# Altium schematic symbol library NUWCBallastBOMSymbols.SchLib: 31 symbols
Pins are listed as number, name and electrical type; pins without a type are passive.

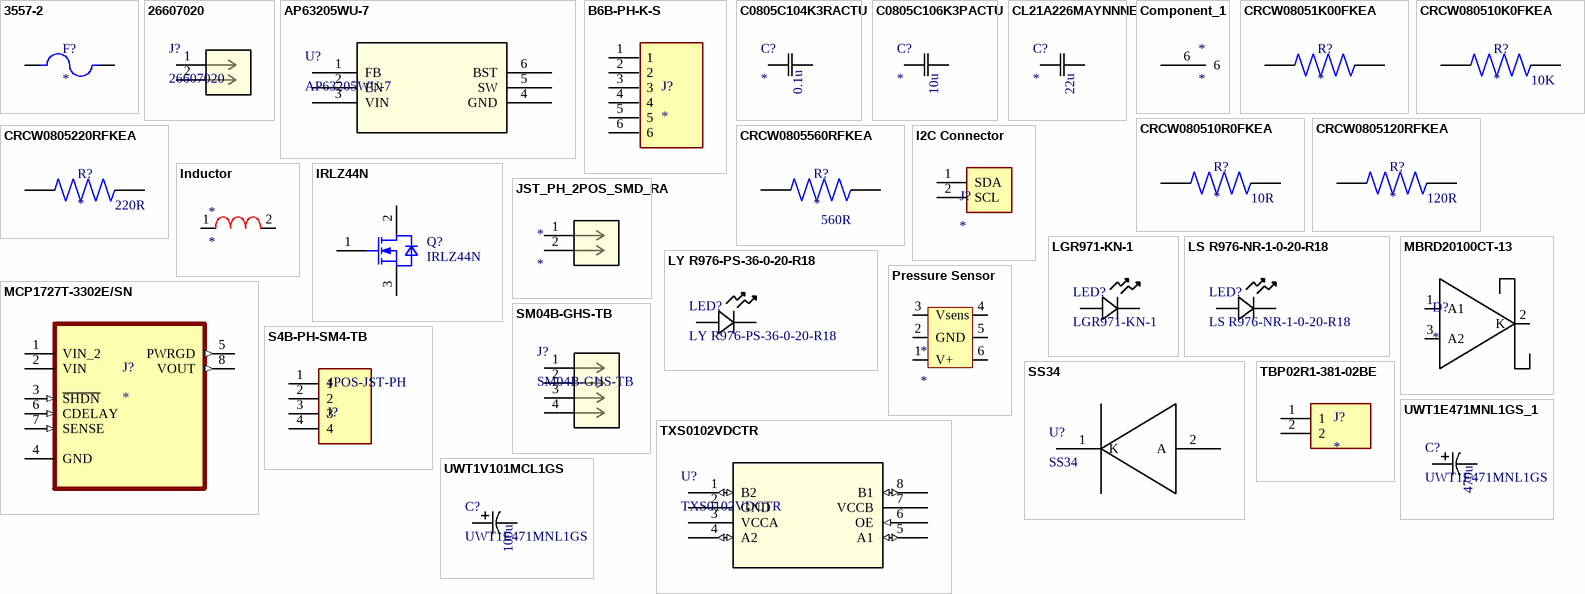
[diagram p0: symbols 3557-2 to UWT1V101MCL1GS]

## 3557-2
designator F?
THM 2 in 1 Auto Blade Holder; MF: Keystone Electronics; MP: 3557-2; Package: Nonstandard Keystone; Check_prices: https://www.snapeda.com/parts/3557-2/Keystone+Electronics/view-part/?ref=eda; Value: *; Purchase-URL: https://pricing.snapeda.com/search/part/3557-2/?ref=eda; Availability: In Stock; SnapEDA_Link: https://www.snapeda.com/parts/3557-2/Keystone+Electronics/view-part/?ref=snap; Price: None
footprint FUSE_3557-2
pins: 1_1 1, 1_2 1, 2_1 2, 2_2 2

## 26607020
designator J?
KK 396 Solid Right-Angle Header, Friction Lock, with Snap-in Plastic Peg  PCB Lock, 2 Circuits, Tin (Sn) Plating; Manufacturer_Name: Molex Connector Corporation; Copyright: Copyright (C) 2026 Ultra Librarian. All rights reserved.; Manufacturer_Part_Number: 26607020; Datasheet: https://www.molex.com/en-us/products/part-detail-pdf/26607020?display=pdf; RefDes: RefDes; Type: Type
footprint CONN_SD-42892-001_M450_02_MOL
pins: 1, 2

## AP63205WU-7
designator U?
Description; Manufacturer_Name: Diodes Inc; Copyright: Copyright (C) 2025 Ultra Librarian. All rights reserved.; Manufacturer_Part_Number: AP63205WU-7; RefDes: RefDes; Type: Type
footprint SOIC_05WU-7_DIO
pins: 1 FB, 2 EN, 3 VIN, 4 GND (power), 5 SW, 6 BST

## B6B-PH-K-S
designator J?
Connector Header Through Hole 6 position 0.079 (2.00mm); MF: JST Sales; MP: B6B-PH-K-S; SnapEDA_Link: https://www.snapeda.com/parts/B6B-PH-K-S/JST+Sales+America+Inc./view-part/?ref=snap; Package: None; Value: *; Check_prices: https://www.snapeda.com/parts/B6B-PH-K-S/JST+Sales+America+Inc./view-part/?ref=eda
footprint JST_B6B-PH-K-S
pins: 1, 2, 3, 4, 5, 6

## C0805C104K3RACTU
designator C?  value 0.1u
Capacitor;Ceramic;Cap;.0.1uF;Tol 10%;SMT;Vol-Rtg 25V;X7R;Tape and Reel | KEMET C0805C104K3RACTU; SnapEDA_Link: https://www.snapeda.com/parts/C0805C104K3RACTU/KEMET/view-part/?ref=snap; Package: 805-2 KEMET; MF: KEMET; MP: C0805C104K3RACTU; Check_prices: https://www.snapeda.com/parts/C0805C104K3RACTU/KEMET/view-part/?ref=eda
footprint CAP_0805_KEMET
pins: 1, 2

## C0805C106K3PACTU
designator C?  value 10u
Capacitor;Ceramic;Cap;.10uF;Tol 10%;SMT;Vol-Rtg 25V;X5R;Tape and Reel | KEMET C0805C106K3PACTU; SnapEDA_Link: https://www.snapeda.com/parts/C0805C104K3RACTU/KEMET/view-part/?ref=snap; Package: 805-2 KEMET; MF: KEMET; MP: C0805C106K3PACTU; Check_prices: https://www.snapeda.com/parts/C0805C104K3RACTU/KEMET/view-part/?ref=eda
footprint CAP_0805_KEMET
pins: 1, 2

## CL21A226MAYNNNE
designator C?  value 22u
Multilayer Ceramic Capacitors MLCC - SMD/SMT 22uF+/-20% 25V X5R 2012; MF: Samsung Electro-Mechanics; MP: CL21A226MAYNNNE; SnapEDA_Link: https://www.snapeda.com/parts/CL21A226MAYNNNE/Samsung/view-part/?ref=snap; Package: SMD-2 Samsung; Check_prices: https://www.snapeda.com/parts/CL21A226MAYNNNE/Samsung/view-part/?ref=eda
footprint CAP_0805_SAMSUNG
pins: 1, 2

## Component_1
designator *
pins: 6

## CRCW08051K00FKEA
designator R?
Resistor,Thick Film,1 Kilohms,0.125 W,1%,SMT,0805,TCR 37 ppm/DegC,Cut Tape | Vishay Dale CRCW08051K00FKEA; SnapEDA_Link: https://www.snapeda.com/parts/CRCW08051K00FKEA/Vishay+Dale/view-part/?ref=snap; Package: 2012 Vishay; Value: *; MF: Vishay; MP: CRCW08051K00FKEA; Check_prices: https://www.snapeda.com/parts/CRCW08051K00FKEA/Vishay+Dale/view-part/?ref=eda
footprint RESC2012X50N
pins: 1, 2

## CRCW080510K0FKEA
designator R?  value 10K
Resistor,Thick Film,10 Kilohms,0.125 W,1%,SMT,0805,TCR 37 ppm/DegC,Cut Tape | Vishay Dale CRCW080510K0FKEA; MP: CRCW08051K00FKEA; SnapEDA_Link: https://www.snapeda.com/parts/CRCW08051K00FKEA/Vishay+Dale/view-part/?ref=snap; Package: 2012 Vishay; MF: Vishay; Check_prices: https://www.snapeda.com/parts/CRCW08051K00FKEA/Vishay+Dale/view-part/?ref=eda
footprint RESC2012X50N
pins: 1, 2

## CRCW080510R0FKEA
designator R?  value 10R
Resistor,Thick Film, 10 Ohms,0.125 W,1%,SMT,0805,TCR 37 ppm/DegC,Cut Tape | Vishay Dale CRCW08051K00FKEA; SnapEDA_Link: https://www.snapeda.com/parts/CRCW08051K00FKEA/Vishay+Dale/view-part/?ref=snap; Package: 2012 Vishay; MF: Vishay; MP: CRCW08051K00FKEA; Check_prices: https://www.snapeda.com/parts/CRCW08051K00FKEA/Vishay+Dale/view-part/?ref=eda
footprint RESC2012X50N
pins: 1, 2

## CRCW0805120RFKEA
designator R?  value 120R
Resistor,Thick Film,120 Ohms,0.125 W,1%,SMT,0805,TCR 37 ppm/DegC,Cut Tape | Vishay Dale CRCW0805120RFKEA; MP: CRCW08051K00FKEA; SnapEDA_Link: https://www.snapeda.com/parts/CRCW08051K00FKEA/Vishay+Dale/view-part/?ref=snap; Package: 2012 Vishay; MF: Vishay; Check_prices: https://www.snapeda.com/parts/CRCW08051K00FKEA/Vishay+Dale/view-part/?ref=eda
footprint RESC2012X50N
pins: 1, 2

## CRCW0805220RFKEA
designator R?  value 220R
Resistor,Thick Film,220 Ohms,0.125 W,1%,SMT,0805,TCR 37 ppm/DegC,Cut Tape | Vishay Dale CRCW0805220RFKEA; MP: CRCW08051K00FKEA; SnapEDA_Link: https://www.snapeda.com/parts/CRCW08051K00FKEA/Vishay+Dale/view-part/?ref=snap; Package: 2012 Vishay; MF: Vishay; Check_prices: https://www.snapeda.com/parts/CRCW08051K00FKEA/Vishay+Dale/view-part/?ref=eda
footprint RESC2012X50N
pins: 1, 2

## CRCW0805560RFKEA
designator R?  value 560R
Resistor,Thick Film,560 Ohms,0.125 W,1%,SMT,0805,TCR 37 ppm/DegC,Cut Tape | Vishay Dale CRCW0805560RFKEA; MP: CRCW08051K00FKEA; SnapEDA_Link: https://www.snapeda.com/parts/CRCW08051K00FKEA/Vishay+Dale/view-part/?ref=snap; Package: 2012 Vishay; MF: Vishay; Check_prices: https://www.snapeda.com/parts/CRCW08051K00FKEA/Vishay+Dale/view-part/?ref=eda
footprint RESC2012X50N
pins: 1, 2

## I2C Connector
designator J?
Connector Header Through Hole 2 position 0.049 (1.25mm); MP: 530470210; MF: Molex; SnapEDA_Link: https://www.snapeda.com/parts/530470210/Molex/view-part/?ref=snap; Purchase-URL: https://pricing.snapeda.com/search/part/530470210/?ref=eda; Value: *; Digi-Key_Part_Number: WM1731-ND; Check_prices: https://www.snapeda.com/parts/530470210/Molex/view-part/?ref=eda; Package: None
footprint MOLEX_530470210
pins: 1 SDA, 2 SCL

## Inductor
designator *
footprint inductor
pins: 1, 2

## IRLZ44N
designator Q?
OptiMOS 3 Power-Transistor, VDS 100V; Manufacturer: Infineon Technologies; Manufacturer Order Number: IRLZ44N; PackageReference: PG-TO220-3-904
footprint IFX-PG-TO220-3-904-1 (TO,flange mount,2.54 mm pitch, 3 pin, 10.16 mm L X 4.57 mm W X 20.56 mm H body)
pins: 1 GATE, 2 DRAIN, 3 SOURCE

## JST_PH_2POS_SMD_RA
designator *
footprint JST_S2B-PH-SM4-TB
pins: 1, 2

## LGR971-KN-1
designator LED?
GREEN DIFF LED; Manufacturer_Name: ams OSRAM; Copyright: Copyright (C) 2025 Ultra Librarian. All rights reserved.; Manufacturer_Part_Number: LGR971-KN-1
footprint LED_LGR971-KN-1_OSR
pins: 1, 2

## LS R976-NR-1-0-20-R18
designator LED?
RED DIFF LED; Manufacturer_Name: ams OSRAM; Manufacturer_Part_Number: LGR971-KN-1; Copyright: Copyright (C) 2025 Ultra Librarian. All rights reserved.
footprint LED_LGR971-KN-1_OSR
pins: 1, 2

## LY R976-PS-36-0-20-R18
designator LED?
YEL DIFF LED; Manufacturer_Name: ams OSRAM; Manufacturer_Part_Number: LGR971-KN-1; Copyright: Copyright (C) 2025 Ultra Librarian. All rights reserved.
footprint LED_LGR971-KN-1_OSR
pins: 1, 2

## MBRD20100CT-13
designator D?
DIODE ARR SCHOT 100V 10A TO2523 / Diodes Incorporated
footprint MBRD20100CT_SHOT_DIODE (DIODE ARR SCHOT 100V 10A TO2523)
pins: 1 A1, 2 K, 3 A2

## MCP1727T-3302E/SN
designator J?
1.5A CMOS LDO, Vout=3.3V, Extended Temp Range | Microchip Technology Inc. MCP1727T-3302E/SN; SnapEDA_Link: https://www.snapeda.com/parts/MCP1727T-3302E/SN/Microchip+Technology/view-part/?ref=snap; Package: SO-8 Microchip; Value: *; MF: Microchip Technology; MP: MCP1727T-3302E/SN; Check_prices: https://www.snapeda.com/parts/MCP1727T-3302E/SN/Microchip+Technology/view-part/?ref=eda
footprint SOIC127P490X175-8N
pins: 1 VIN_2 (power), 2 VIN (power), 3 ~{SHDN} (in), 4 GND, 5 PWRGD (out), 6 CDELAY (in), 7 SENSE (in), 8 VOUT (out)

## Pressure Sensor
designator *
footprint PCBComponent_1
pins: 1 V+, 2 GND, 3 Vsens, 4, 5, 6

## S4B-PH-SM4-TB
designator 4POS-JST-PH, comment J?
Connector Header Surface Mount, Right Angle 4 position 0.079 (2.00mm); MF: JST Sales; MP: S4B-PH-SM4-TB; SnapEDA_Link: https://www.snapeda.com/parts/S4B-PH-SM4-TB/JST/view-part/?ref=snap; Package: None; Value: *; Check_prices: https://www.snapeda.com/parts/S4B-PH-SM4-TB/JST/view-part/?ref=eda
footprint JST_S4B-PH-SM4-TB
pins: 1, 2, 3, 4

## SM04B-GHS-TB
designator J?
Description; Manufacturer_Name: JST; Copyright: Copyright (C) 2025 Ultra Librarian. All rights reserved.; Manufacturer_Part_Number: SM04B-GHS-TB; RefDes: RefDes; Type: Type
footprint CONN_SM04B-GHS-TB_JST
pins: 1, 2, 3, 4

## SS34
designator U?
Description; Manufacturer_Name: onsemi; Copyright: Copyright (C) 2025 Ultra Librarian. All rights reserved.; Manufacturer_Part_Number: SS34; RefDes: RefDes; Type: Type
footprint SHOTT_DIODE
pins: 1 K, 2 A

## TBP02R1-381-02BE
designator J?
2~24 Poles, Pluggable,Receptacle, Horizontal, 3.81 Pitch, Terminal Block Connector; MF: Same Sky; MP: TBP02R1-381-02BE; SnapEDA_Link: https://www.snapeda.com/parts/TBP02R1-381-02BE/Same+Sky/view-part/?ref=snap; Package: None; Value: *; Check_prices: https://www.snapeda.com/parts/TBP02R1-381-02BE/Same+Sky/view-part/?ref=eda
footprint CUI_TBP02R1-381-02BE
pins: 1, 2

## TXS0102VDCTR
designator U?
Two-bit bidirectional level shifter for open-drain and push-pull applications 8-SSOP -40 to 85; Manufacturer_Name: Texas Instruments; Copyright: Copyright (C) 2025 Ultra Librarian. All rights reserved.; Manufacturer_Part_Number: TXS0102VDCTR; RefDes: RefDes; Type: Type
footprint SSOP8_DCT_TEX
pins: 1 B2 (io), 2 GND (power), 3 VCCA (power), 4 A2 (io), 5 A1 (io), 6 OE (in), 7 VCCB (power), 8 B1 (io)

## UWT1E471MNL1GS_1
designator C?, comment UWT1E471MNL1GS  value 470u
470u; Manufacturer_Name: Nichicon; Copyright: Copyright (C) 2025 Ultra Librarian. All rights reserved.; Manufacturer_Part_Number: UWT1E471MNL1GS
footprint PCAP_10x10-ELECT_NCA
pins: 1, 2

## UWT1V101MCL1GS
designator C?, comment UWT1E471MNL1GS  value 100u
100u; Manufacturer_Name: Nichicon; Copyright: Copyright (C) 2025 Ultra Librarian. All rights reserved.; Manufacturer_Part_Number: UWT1E471MNL1GS
footprint PCAP_10x10-ELECT_NCA
pins: 1, 2